# EAGLE library part RTBOARD (library GW-devices)
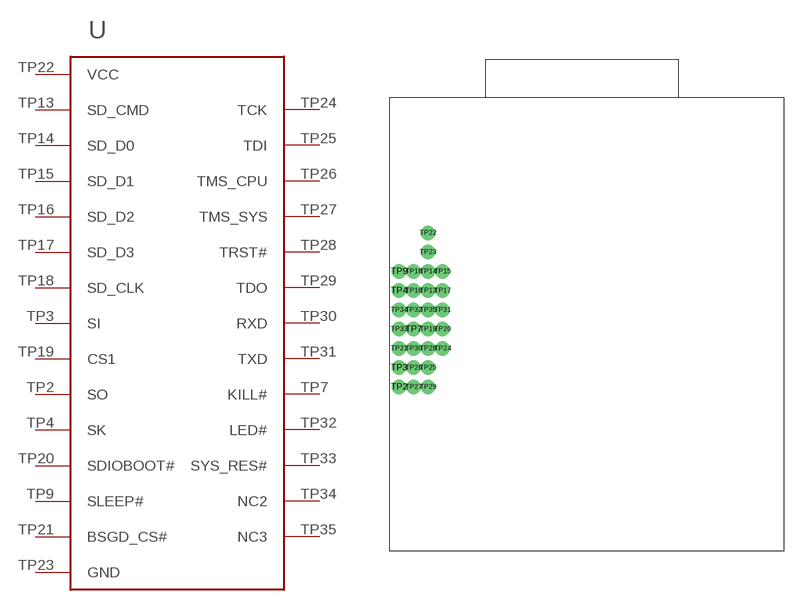
[diagram p42: symbol with the pads of RTBOARD; footprint RTBOARD]

Designator prefix -

## RTBOARD  [RTBOARD]
TP2  SO
TP3  SI
TP4  SK
TP7  KILL#
TP9  SLEEP#
TP13  SD_CMD
TP14  SD_D0
TP15  SD_D1
TP16  SD_D2
TP17  SD_D3
TP18  SD_CLK
TP19  CS1
TP20  SDIOBOOT#
TP21  BSGD_CS#
TP22  VCC
TP23  GND
TP24  TCK
TP25  TDI
TP26  TMS_CPU
TP27  TMS_SYS
TP28  TRST#
TP29  TDO
TP30  RXD
TP31  TXD
TP32  LED#
TP33  SYS_RES#
TP34  NC2
TP35  NC3

## Footprint RTBOARD (pad centres in mm)
drill 1 pad 1.1: TP2 1,-30; TP3 1,-28; TP4 1,-20; TP7 2.5,-24; TP9 1,-18; TP13 4,-20; TP14 4,-18; TP15 5.5,-18; TP16 2.5,-20; TP17 5.5,-20; TP18 2.5,-18; TP19 4,-24; TP20 5.5,-24; TP21 1,-26; TP22 4,-14; TP23 4,-16; TP24 5.5,-26; TP25 4,-28; TP26 2.5,-28; TP27 2.5,-30; TP28 4,-26; TP29 4,-30; TP30 2.5,-26; TP31 5.5,-22; TP32 2.5,-22; TP33 1,-24; TP34 1,-22; TP35 4,-22